# EAGLE library part CY8C3XXX-68 (library PatternAgents-Cypress)
Cypress PSoC® 3 - Programmable System on Chip, 8051 Based Source Data: http://www.cypress.com/?mpn=CY8C3866LTI-030 PKG Source : http://www.cypress.com/?docID=38892 LBR Source: http://www.patternagents.com THIS SOFTWARE IS PROVIDED BY THE CONTRIBUTORS "AS IS" AND WITHOUT ANY EXPRESS OR IMPLIED WARRANTIES, INCLUDING, BUT NOT LIMITED TO, THE IMPLIED WARRANTIES OF MERCHANTABILITY AND FITNESS FOR A PARTICULAR PURPOSE ARE DISCLAIMED. IN NO EVENT SHALL THE COPYRIGHT OWNER OR CONTRIBUTORS BE LIABLE FOR ANY DIRECT, INDIRECT, INCIDENTAL, SPECIAL, EXEMPLARY, OR CONSEQUENTIAL DAMAGES (INCLUDING, BUT NOT LIMITED TO, PROCUREMENT OF SUBSTITUTE GOODS OR SERVICES; LOSS OF USE, DATA, OR PROFITS; OR BUSINESS INTERRUPTION) HOWEVER CAUSED AND ON ANY THEORY OF LIABILITY, WHETHER IN CONTRACT, STRICT LIABILITY, OR TORT (INCLUDING NEGLIGENCE OR OTHERWISE) ARISING IN ANY WAY OUT OF THE USE OF THIS SOFTWARE, EVEN IF ADVISED OF THE POSSIBILITY OF SUCH DAMAGE.
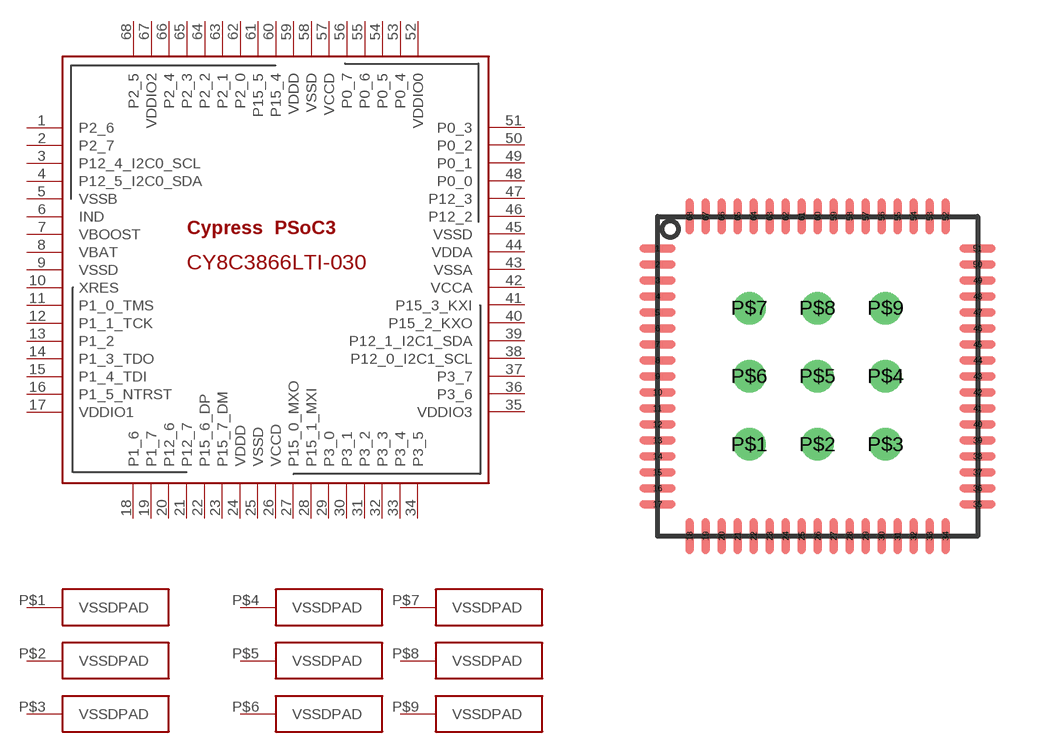
[diagram p0: symbol with the pads of QFN68; footprint QFN68]

Designator prefix -; gates G$1=CY8C3XXX-68PIN G$2=VSSDPAD G$3=VSSDPAD G$4=VSSDPAD G$5=VSSDPAD G$6=VSSDPAD G$7=VSSDPAD G$8=VSSDPAD G$9=VSSDPAD G$10=VSSDPAD

## CY8C3XXX-68  [QFN68]
1  G$1:P2_6  pas
2  G$1:P2_7  pas
3  G$1:P12_4_I2C0_SCL  pas
4  G$1:P12_5_I2C0_SDA  pas
5  G$1:VSSB  pas
6  G$1:IND  pas
7  G$1:VBOOST  pas
8  G$1:VBAT  pas
9  G$1:VSSD  pas
10  G$1:XRES  pas
11  G$1:P1_0_TMS  pas
12  G$1:P1_1_TCK  pas
13  G$1:P1_2  pas
14  G$1:P1_3_TDO  pas
15  G$1:P1_4_TDI  pas
16  G$1:P1_5_NTRST  pas
17  G$1:VDDIO1  pas
18  G$1:P1_6  pas
19  G$1:P1_7  pas
20  G$1:P12_6  pas
21  G$1:P12_7  pas
22  G$1:P15_6_DP  pas
23  G$1:P15_7_DM  pas
24  G$1:VDDD  pas
25  G$1:VSSD  pas
26  G$1:VCCD  pas
27  G$1:P15_0_MXO  pas
28  G$1:P15_1_MXI  pas
29  G$1:P3_0  pas
30  G$1:P3_1  pas
31  G$1:P3_2  pas
32  G$1:P3_3  pas
33  G$1:P3_4  pas
34  G$1:P3_5  pas
35  G$1:VDDIO3  pas
36  G$1:P3_6  pas
37  G$1:P3_7  pas
38  G$1:P12_0_I2C1_SCL  pas
39  G$1:P12_1_I2C1_SDA  pas
40  G$1:P15_2_KXO  pas
41  G$1:P15_3_KXI  pas
42  G$1:VCCA  pas
43  G$1:VSSA  pas
44  G$1:VDDA  pas
45  G$1:VSSD  pas
46  G$1:P12_2  pas
47  G$1:P12_3  pas
48  G$1:P0_0  pas
49  G$1:P0_1  pas
50  G$1:P0_2  pas
51  G$1:P0_3  pas
52  G$1:VDDIO0  pas
53  G$1:P0_4  pas
54  G$1:P0_5  pas
55  G$1:P0_6  pas
56  G$1:P0_7  pas
57  G$1:VCCD  pas
58  G$1:VSSD  pas
59  G$1:VDDD  pas
60  G$1:P15_4  pas
61  G$1:P15_5  pas
62  G$1:P2_0  pas
63  G$1:P2_1  pas
64  G$1:P2_2  pas
65  G$1:P2_3  pas
66  G$1:P2_4  pas
67  G$1:VDDIO2  pas
68  G$1:P2_5  pas
P$1  G$2:VSSDPAD  pwr
P$2  G$3:VSSDPAD  pwr
P$3  G$4:VSSDPAD  pwr
P$4  G$5:VSSDPAD  pwr
P$5  G$6:VSSDPAD  pwr
P$6  G$7:VSSDPAD  pwr
P$7  G$8:VSSDPAD  pwr
P$8  G$9:VSSDPAD  pwr
P$9  G$10:VSSDPAD  pwr

## Footprint QFN68 (pad centres in mm)
QFN68 LBR Source: http://www.patternagents.com THIS SOFTWARE IS PROVIDED BY THE CONTRIBUTORS "AS IS" AND WITHOUT ANY EXPRESS OR IMPLIED WARRANTIES, INCLUDING, BUT NOT LIMITED TO, THE IMPLIED WARRANTIES OF MERCHANTABILITY AND FITNESS FOR A PARTICULAR PURPOSE ARE DISCLAIMED. IN NO EVENT SHALL THE COPYRIGHT OWNER OR CONTRIBUTORS BE LIABLE FOR ANY DIRECT, INDIRECT, INCIDENTAL, SPECIAL, EXEMPLARY, OR CONSEQUENTIAL DAMAGES (INCLUDING, BUT NOT LIMITED TO, PROCUREMENT OF SUBSTITUTE GOODS OR SERVICES; LOSS OF USE, DATA, OR PROFITS; OR BUSINESS INTERRUPTION) HOWEVER CAUSED AND ON ANY THEORY OF LIABILITY, WHETHER IN CONTRACT, STRICT LIABILITY, OR TORT (INCLUDING NEGLIGENCE OR OTHERWISE) ARISING IN ANY WAY OUT OF THE USE OF THIS SOFTWARE, EVEN IF ADVISED OF THE POSSIBILITY OF SUCH DAMAGE.
smd 0.9 x 0.2: 1 -4,3.2; 2 -4,2.8; 3 -4,2.4; 4 -4,2; 5 -4,1.6; 6 -4,1.2; 7 -4,0.8; 8 -4,0.4; 9 -4,0; 10 -4,-0.4; 11 -4,-0.8; 12 -4,-1.2; 13 -4,-1.6; 14 -4,-2; 15 -4,-2.4; 16 -4,-2.8; 17 -4,-3.2; 35 4,-3.2; 36 4,-2.8; 37 4,-2.4; 38 4,-2; 39 4,-1.6; 40 4,-1.2; 41 4,-0.8; 42 4,-0.4; 43 4,0; 44 4,0.4; 45 4,0.8; 46 4,1.2; 47 4,1.6; 48 4,2; 49 4,2.4; 50 4,2.8; 51 4,3.2
smd 0.2 x 0.9: 18 -3.2,-4; 19 -2.8,-4; 20 -2.4,-4; 21 -2,-4; 22 -1.6,-4; 23 -1.2,-4; 24 -0.8,-4; 25 -0.4,-4; 26 0,-4; 27 0.4,-4; 28 0.8,-4; 29 1.2,-4; 30 1.6,-4; 31 2,-4; 32 2.4,-4; 33 2.8,-4; 34 3.2,-4; 52 3.2,4; 53 2.8,4; 54 2.4,4; 55 2,4; 56 1.6,4; 57 1.2,4; 58 0.8,4; 59 0.4,4; 60 0,4; 61 -0.4,4; 62 -0.8,4; 63 -1.2,4; 64 -1.6,4; 65 -2,4; 66 -2.4,4; 67 -2.8,4; 68 -3.2,4
drill 0.305: P$1 -1.705,-1.705; P$2 0,-1.705; P$3 1.705,-1.705; P$4 1.705,0; P$5 0,0; P$6 -1.705,0; P$7 -1.705,1.705; P$8 0,1.705; P$9 1.705,1.705